# Altium schematic symbol library SCH - POWER - LINEAR VREG - TI LP2988ILD-3.8.SchLib: 1 symbol
Pins are listed as number, name and electrical type; pins without a type are passive.

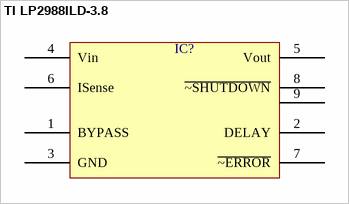
[diagram p0: symbol TI LP2988ILD-3.8]

## TI LP2988ILD-3.8
designator IC?  (value not drawn)
pins: 1 BYPASS, 2 DELAY, 3 GND, 4 Vin, 5 Vout, 6 ISense, 7 ~{~ERROR}, 8 ~{~SHUTDOWN}, 9